# Altium footprint library SOIC-8_L5.0-W4.0-P1.27-LS6.0-BL.PcbLib: 1 footprints
Each footprint in its own frame and in the unit in brackets; x right, y up, seen from the top. Pads: shape width x height; smd on the part's side, far side on the other; paste and mask are expansions set on the pad; w line width, h text height; cw(c..) or ccw(c..) is an arc to the next point about the centre after c.
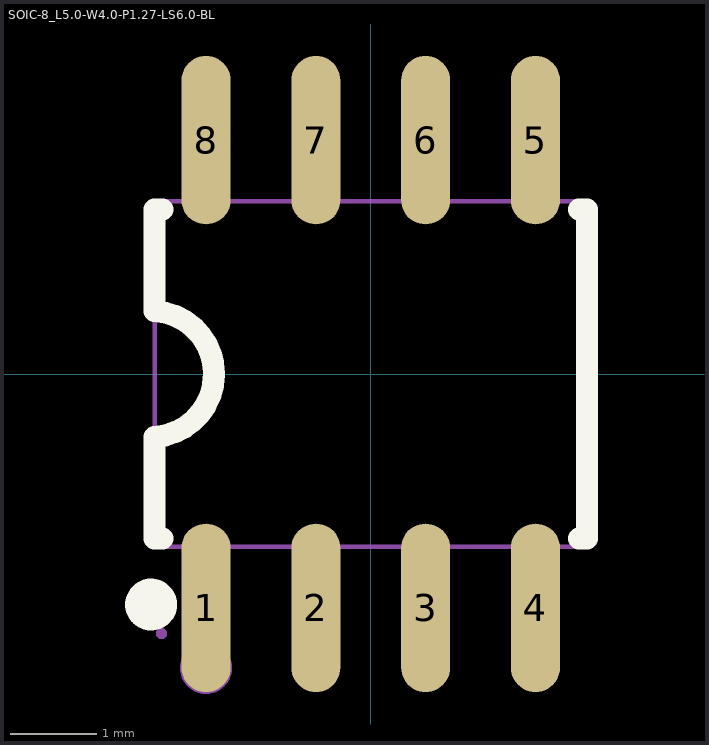
[diagram p0: the footprint, top view; thin cyan lines are the x and y axes]

## SOIC-8_L5.0-W4.0-P1.27-LS6.0-BL [mil]
pads (8):
  oval 22.38x76.78 smd mask+2: 1(-75,-106.5) 2(-25,-106.5) 3(25,-106.5) 4(75,-106.5) 5(75,106.5) 6(25,106.5) 7(-25,106.5) 8(-75,106.5)
Top Overlay:
  circle w11.81: c-100,-105 r5.91
  lines w10: -98.43,-28.61 ccw(c-99.99,0) -98.23,28.59 ; -98.42,-28.61 -98.42,-59.05 -98.42,-75 -94.83,-75 ; -98.42,28.59 -98.42,59.05 -98.42,75 -94.83,75 ; 94.83,-75 98.42,-75 98.42,-59.05 98.42,59.05 98.42,75 94.83,75
Mechanical 6:
  circle w11.81: c-75,-133.86 r5.91
Mechanical 15:
  region: -92.92,-118.11 -92.92,-117.13 -94.3,-115.75 -96.26,-115.75 -97.64,-117.13 -97.64,-118.11 -97.64,-119.09 -96.26,-120.47 -94.3,-120.47 -92.92,-119.09 -92.92,-118.11
  region: 66.93,76.38 66.93,85.63 83.07,85.63 83.07,76.38
  region: 66.93,85.24 66.93,118.11 83.07,118.11 83.07,85.24
  region: 16.93,76.38 16.93,85.63 33.07,85.63 33.07,76.38
  region: 16.93,85.24 16.93,118.11 33.07,118.11 33.07,85.24
  region: -33.07,76.38 -33.07,85.63 -16.93,85.63 -16.93,76.38
  region: -33.07,85.24 -33.07,118.11 -16.93,118.11 -16.93,85.24
  region: -83.07,76.38 -83.07,85.63 -66.93,85.63 -66.93,76.38
  region: -83.07,85.24 -83.07,118.11 -66.93,118.11 -66.93,85.24
  region: 66.93,-85.63 66.93,-76.38 83.07,-76.38 83.07,-85.63
  region: 66.93,-118.11 66.93,-85.24 83.07,-85.24 83.07,-118.11
  region: 16.93,-85.63 16.93,-76.38 33.07,-76.38 33.07,-85.63
  region: 16.93,-118.11 16.93,-85.24 33.07,-85.24 33.07,-118.11
  region: -33.07,-85.63 -33.07,-76.38 -16.93,-76.38 -16.93,-85.63
  region: -33.07,-118.11 -33.07,-85.24 -16.93,-85.24 -16.93,-118.11
  region: -83.07,-85.63 -83.07,-76.38 -66.93,-76.38 -66.93,-85.63
  region: -83.07,-118.11 -83.07,-85.24 -66.93,-85.24 -66.93,-118.11
  lines w2: -98.42,-78.74 -98.42,78.74 98.42,78.74 98.42,-78.74 -98.42,-78.74